# Altium footprint library Mach_congtac_thong_minh_Kien.PcbLib: 35 footprints (part 2 of 3)
Each footprint in its own frame and in the unit in brackets; x right, y up, seen from the top. Pads: shape width x height; smd on the part's side, far side on the other; paste and mask are expansions set on the pad; w line width, h text height; cw(c..) or ccw(c..) is an arc to the next point about the centre after c.
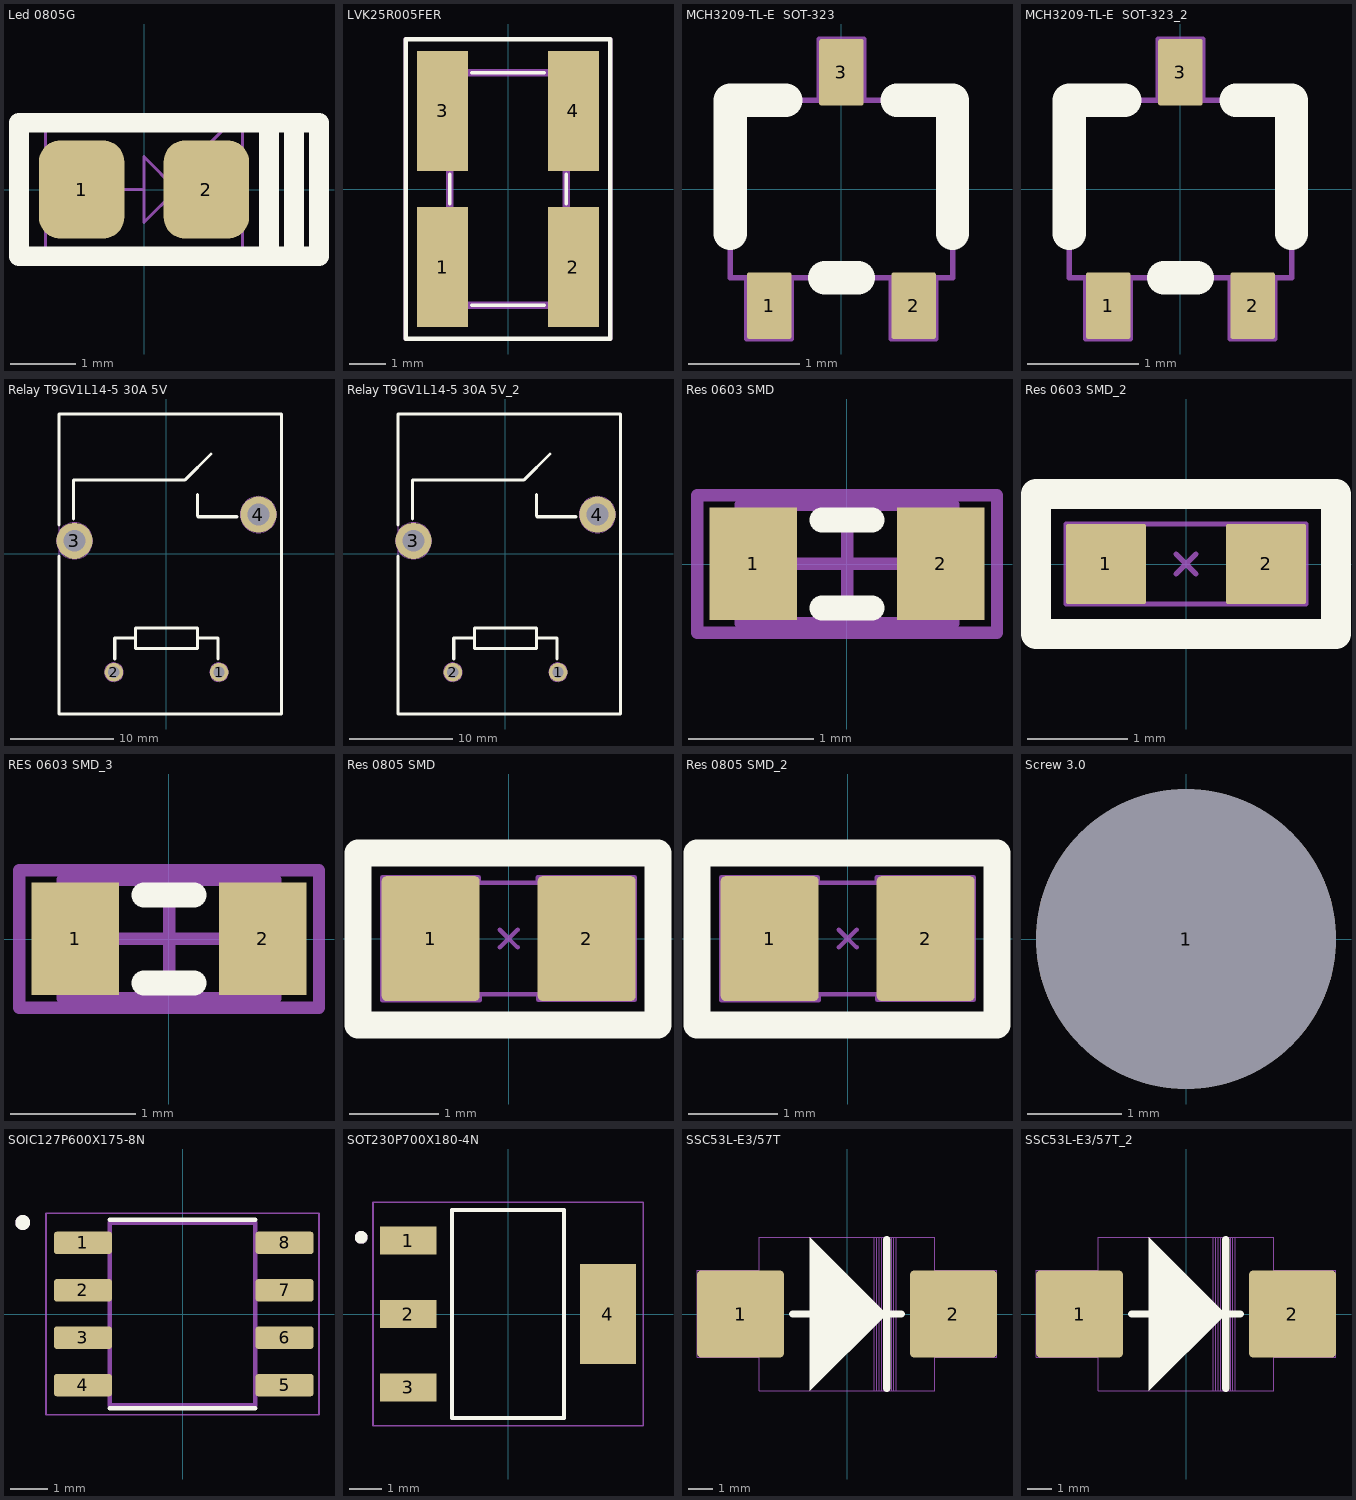
[diagram p1: the footprints below, top view; thin cyan lines are the x and y axes]

## Led 0805G [mm] "Chip LED; Green; Body 2.0 x 1.3 mm (LxW typ)"
height 1.1
pads (2):
  rrect50% 1.3x1.5 smd mask+0.05: 1(-0.95,0) 2(0.95,0)
Top Overlay:
  lines w0.3: 1.905,-1.016 1.905,1.016 ; 2.286,-1.016 2.286,1.016 ; -1.905,-1.016 -1.905,1.016 2.667,1.016 2.667,-1.016 -1.905,-1.016
Mechanical 2:
  lines w0.05: -1.5,-1 -1.5,1.032 ; -0.5,0 0,0 ; 0.5,-0.5 0.5,0.5 ; 0.6,0.5 0.8,0.7 0.8,0.5 1.2,0.9 ; 0.75,0.2 0.95,0.4 0.95,0.2 1.35,0.6 ; 1,0 0.5,0 ; 1.5,-1 1.5,1.032 ; 0.5,0 0,-0.5 0,0.5 0.5,0 ; -1.905,-1 -1.905,1.032 1.905,1.032 1.905,-1 -1.905,-1
3D body "User Library-User Library-led_0805 GRE.step": height 1.1, standoff 0, extent -1.035,-0.625 0.985,0.625

## LVK25R005FER [mm]
height 0.6
pads (4):
  rect 1.4x3.3 smd: 1(-1.8,-2.15) 2(1.8,-2.15) 3(-1.8,2.15) 4(1.8,2.15)
Top Overlay:
  lines w0.1: -1.6,-0.4 -1.6,0.4 ; -1,-3.2 1,-3.2 ; -1,3.2 1,3.2 ; 1.6,-0.4 1.6,0.4
  lines w0.127: -2.816,-4.119 -2.816,4.119 2.816,4.119 2.816,-4.119 -2.816,-4.119
Mechanical 13:
  lines w0.2: -1.6,-3.2 -1.6,3.2 1.6,3.2 1.6,-3.2 -1.6,-3.2
Mechanical 15:
  lines w0.1: -2.825,-4.125 -2.825,4.125 2.825,4.125 2.825,-4.125 -2.825,-4.125
3D body "User Library-LVK25-V2.step": height 0.67, standoff -0.05, extent -1.6,-3.206 1.5,3.205

## MCH3209-TL-E  SOT-323 [mm] "TRANS NPN 30V 3A MCPH3  SOT-323"
height 0.9
pads (3):
  rrect10% 0.4x0.6 smd mask+0.05: 1(-0.65,-1.05) 2(0.65,-1.05) 3(0,1.05)
Top Overlay:
  lines w0: 1,-0.4 1.1,-0.4
  lines w0.3: -1,-0.4 -1,0.8 -0.5,0.8 ; -0.15,-0.8 0.15,-0.8 ; 0.5,0.8 1,0.8 1,-0.4
Mechanical 2:
  lines w0.05: -0.851,-0.802 -0.851,-1.347 -0.45,-1.347 -0.45,-0.801 ; -0.201,0.801 -0.2,0.801 -0.2,1.347 0.201,1.347 0.201,0.802 0.204,0.802 ; 0.449,-0.802 0.449,-1.347 0.85,-1.347 0.85,-0.801 ; -1,-0.8 -1,0.8 1,0.8 1,-0.8 -1,-0.8
  text "E" at 0.55,-0.65 h0.75
  text "C" at -0.15,0.2 h0.75
  text "B" at -0.85,-0.65 h0.75
3D body "User Library-sc70-3.step": height 0.9, standoff -0.1, extent -1.05,-1.15 1.05,1.15

## MCH3209-TL-E  SOT-323_2 [mm]
pads (3):
  rrect10% 0.4x0.6 smd mask+0.05: 1(-0.65,-1.05) 2(0.65,-1.05) 3(0,1.05)
Top Overlay:
  lines w0: 1,-0.4 1.1,-0.4
  lines w0.3: -1,-0.4 -1,0.8 -0.5,0.8 ; -0.15,-0.8 0.15,-0.8 ; 0.5,0.8 1,0.8 1,-0.4
Mechanical 2:
  lines w0.05: -0.851,-0.802 -0.851,-1.347 -0.45,-1.347 -0.45,-0.801 ; -0.201,0.801 -0.2,0.801 -0.2,1.347 0.201,1.347 0.201,0.802 0.204,0.802 ; 0.449,-0.802 0.449,-1.347 0.85,-1.347 0.85,-0.801 ; -1,-0.8 -1,0.8 1,0.8 1,-0.8 -1,-0.8
  text "E" at 0.55,-0.65 h0.75
  text "C" at -0.15,0.2 h0.75
  text "B" at -0.85,-0.65 h0.75
3D body "User Library-sc70-3.step": height 0.9, standoff -0.1, extent -1.05,-1.15 1.05,1.15

## Relay T9GV1L14-5 30A 5V [mm] "Relay T9GV1L14-5 30A 5V CODE FORM C"
height 15.7
pads (4):
  round 1.8 hole 1.1 mask+0.05: 1(5.08,-11.43) 2(-5.08,-11.43)
  round 3.5 hole 2.1 mask+0.05: 3(-8.89,1.27) 4(8.89,3.81)
Top Overlay:
  lines w0.3: -10.37,-0.2 -10.37,-15.47 11.13,-15.47 11.13,13.53 -10.37,13.53 -10.37,2.8 ; -9,3.4 -9,7.16 1.8,7.16 4.3,9.66 ; -5,-10.14 -5,-8.14 -3,-8.14 ; 3,-8.14 5,-8.14 5,-10.14 ; 3,5.76 3,3.66 3.06,3.6 6.8,3.6 ; -3,-9.14 -3,-7.14 3,-7.14 3,-9.14 -3,-9.14
Mechanical 2:
  circle w0.05: c-5.08,-11.43 r0.9
  circle w0.05: c5.08,-11.43 r0.9
  circle w0.05: c8.89,3.81 r1.75
  circle w0.05: c-8.89,1.27 r1.75
  lines w0.05: -10.37,-15.47 11.13,-15.47 11.13,13.53 -10.37,13.53 -10.37,-15.47
  text "2" at -5.3,-12 h0.75
  text "1" at 4.8,-12 h0.75
  text "3" at -9.2,0.8 h0.75
  text "4" at 8.6,3.2 h0.75
3D body: height 15.7, standoff 0, extent -10.37,-15.47 11.13,13.53

## Relay T9GV1L14-5 30A 5V_2 [mm]
pads (4):
  round 1.8 hole 1.1 mask+0.05: 1(5.08,-11.43) 2(-5.08,-11.43)
  round 3.5 hole 2.1 mask+0.05: 3(-8.89,1.27) 4(8.89,3.81)
Top Overlay:
  lines w0.3: -10.37,-0.2 -10.37,-15.47 11.13,-15.47 11.13,13.53 -10.37,13.53 -10.37,2.8 ; -9,3.4 -9,7.16 1.8,7.16 4.3,9.66 ; -5,-10.14 -5,-8.14 -3,-8.14 ; 3,-8.14 5,-8.14 5,-10.14 ; 3,5.76 3,3.66 3.06,3.6 6.8,3.6 ; -3,-9.14 3,-9.14 3,-7.14 -3,-7.14 -3,-9.14
Mechanical 2:
  circle w0.05: c-8.89,1.27 r1.75
  circle w0.05: c8.89,3.81 r1.75
  circle w0.05: c5.08,-11.43 r0.9
  circle w0.05: c-5.08,-11.43 r0.9
  lines w0.05: -10.37,-15.47 -10.37,13.53 11.13,13.53 11.13,-15.47 -10.37,-15.47
  text "4" at 8.6,3.2 h0.75
  text "3" at -9.2,0.8 h0.75
  text "1" at 4.8,-12 h0.75
  text "2" at -5.3,-12 h0.75
3D body: height 15.7, standoff 0, extent -10.37,-15.47 11.13,13.53

## Res 0603 SMD [mm] "Chip Resistor, Body 1.6x0.8mm, IPC High Density"
height 0.6
pads (2):
  rect 0.7x0.9 smd mask+0.05: 1(-0.75,0) 2(0.75,0)
Top Overlay:
  lines w0.2: -0.2,-0.35 0.2,-0.35 ; -0.2,0.35 0.2,0.35
Mechanical 13:
  lines w0.1: -0.85,-0.475 -0.85,0.475 0.85,0.475 0.85,-0.475 -0.85,-0.475
Mechanical 15:
  lines w0.1: -0.475,0 0.475,0 ; 0,-0.475 0,0.475 ; -1.2,-0.55 -1.2,0.55 1.2,0.55 1.2,-0.55 -1.2,-0.55
3D body: height 0.6, standoff 0, extent -0.85,-0.475 0.85,0.475

## Res 0603 SMD_2 [mm]
pads (2):
  rrect5% 0.8x0.8 smd mask+0.05: 1(-0.8,0) 2(0.8,0)
Top Overlay:
  lines w0.3: -1.5,-0.7 1.5,-0.7 1.5,0.7 -1.5,0.7 -1.5,-0.7
Mechanical 2:
  lines w0.05: -0.8,-0.4 -1.2,-0.4 -1.2,0.4 -0.8,0.4 ; -0.8,-0.4 -0.8,-0.4 ; -0.8,-0.4 0.8,-0.4 ; -0.8,-0.4 -0.8,0.4 ; -0.8,0.4 0.8,0.4 ; 0.8,-0.4 1.2,-0.4 1.2,0.4 0.8,0.4 ; 0.8,-0.4 0.8,0.4
  text ".Designator" at 0,0 h0.75
Mechanical 15:
  lines w0.05: -0.1,-0.1 0.1,0.1 ; -0.1,0.1 0.1,-0.1 ; -0.8,-0.4 -0.8,0.4 0.8,0.4 0.8,-0.4 -0.8,-0.4
3D body "User Library-SMD RESISTOR-10603.STEP": height 0.48, standoff 0.02, extent -0.8,-0.4 0.8,0.4

## RES 0603 SMD_3 [mm]
pads (2):
  rect 0.7x0.9 smd mask+0.05: 1(-0.75,0) 2(0.75,0)
Top Overlay:
  lines w0.2: -0.2,-0.35 0.2,-0.35 ; -0.2,0.35 0.2,0.35
Mechanical 13:
  lines w0.1: -0.85,-0.475 0.85,-0.475 0.85,0.475 -0.85,0.475 -0.85,-0.475
Mechanical 15:
  lines w0.1: -0.475,0 0.475,0 ; 0,-0.475 0,0.475 ; -1.2,-0.55 1.2,-0.55 1.2,0.55 -1.2,0.55 -1.2,-0.55
3D body: height 0.6, standoff 0, extent -0.85,-0.475 0.85,0.475

## Res 0805 SMD [mm] "Reflow Soldering"
pads (2):
  rrect10% 1.1x1.4 smd mask+0.05: 1(-0.875,0) 2(0.875,0)
Top Overlay:
  lines w0.3: -1.69,-0.97 -1.69,0.96 1.675,0.96 1.675,-0.97 -1.69,-0.97
Mechanical 2:
  lines w0.05: -0.331,0.642 -0.334,0.642 -0.334,0.687 -1.416,0.687 -1.416,-0.69 -1.413,-0.69 -0.327,-0.69 ; -0.325,-0.69 -0.325,-0.632 ; 0.324,0.632 0.324,0.69 ; 0.327,0.69 1.413,0.69 ; 0.334,-0.642 0.334,-0.687 1.416,-0.687 1.416,0.69 ; -1,-0.625 1,-0.625 1,0.625 -1,0.625 -1,-0.625
  text ".Designator" at 0,0 h0.75
Mechanical 15:
  lines w0.05: -0.1,-0.1 0.1,0.1 ; -0.1,0.1 0.1,-0.1 ; -1,-0.625 1,-0.625 1,0.625 -1,0.625 -1,-0.625
3D body "User Library-SMD RESISTOR-10805.STEP": height 0.62, standoff 0.02, extent -1,-0.625 1,0.625

## Res 0805 SMD_2 [mm]
pads (2):
  rrect10% 1.1x1.4 smd mask+0.05: 1(-0.875,0) 2(0.875,0)
Top Overlay:
  lines w0.3: -1.69,-0.97 1.675,-0.97 1.675,0.96 -1.69,0.96 -1.69,-0.97
Mechanical 2:
  lines w0.05: -0.331,0.642 -0.334,0.642 -0.334,0.687 -1.416,0.687 -1.416,-0.69 -1.413,-0.69 -0.327,-0.69 ; -0.325,-0.69 -0.325,-0.632 ; 0.324,0.632 0.324,0.69 ; 0.327,0.69 1.413,0.69 ; 0.334,-0.642 0.334,-0.687 1.416,-0.687 1.416,0.69 ; -1,-0.625 -1,0.625 1,0.625 1,-0.625 -1,-0.625
  text ".Designator" at 0,0 h0.75
Mechanical 15:
  lines w0.05: -0.1,-0.1 0.1,0.1 ; -0.1,0.1 0.1,-0.1 ; -1,-0.625 -1,0.625 1,0.625 1,-0.625 -1,-0.625
3D body "User Library-SMD RESISTOR-10805.STEP": height 0.62, standoff 0.02, extent -1,-0.625 1,0.625

## Screw 3.0 [mm] "Hole 3.2mm outline 8mm"
height 10
pads (1):
  round 3.2 hole 3.2 mask+0.05: 1(0,0)

## SOIC127P600X175-8N [mm]
height 0.6
pads (8):
  rrect25% 1.55x0.6 smd: 1(-2.667,1.905) 2(-2.667,0.635) 3(-2.667,-0.635) 4(-2.667,-1.905) 5(2.733,-1.905) 6(2.733,-0.635) 7(2.733,0.635) 8(2.733,1.905)
Top Overlay:
  circle w0.2: c-4.28,2.45 r0.1
  lines w0.127: -1.95,-2.525 1.95,-2.525 ; -1.95,2.525 1.95,2.525
Mechanical 13:
  circle w0.2: c-4.28,2.45 r0.1
  lines w0.127: -1.95,-2.45 1.95,-2.45 1.95,2.45 -1.95,2.45 -1.95,-2.45
Mechanical 15:
  lines w0.05: -3.655,-2.7 3.655,-2.7 3.655,2.7 -3.655,2.7 -3.655,-2.7
3D body "step_temp.STEP": height 1.75, standoff 0, extent -3,-2.45 3,2.45

## SOT230P700X180-4N [mm]
pads (4):
  rect 1.76x0.88 smd: 1(-3.125,2.3) 2(-3.125,0) 3(-3.125,-2.3)
  rect 1.76x3.14 smd: 4(3.125,0)
Top Overlay:
  circle w0.2: c-4.6,2.4 r0.1
  lines w0.127: -1.75,-3.25 -1.75,3.25 1.75,3.25 1.75,-3.25 -1.75,-3.25
Mechanical 13:
  circle w0.2: c-4.6,2.4 r0.1
  lines w0.127: -1.75,-3.25 1.75,-3.25 1.75,3.25 -1.75,3.25 -1.75,-3.25
Mechanical 15:
  lines w0.05: -4.23,-3.5 4.23,-3.5 4.23,3.5 -4.23,3.5 -4.23,-3.5
3D body "CircuitWorks-SOT-223.step": height 1.65, standoff -0.03, extent -3.48,-3.25 3.48,3.25

## SSC53L-E3/57T [mm] "DIODE SCHOTTKY 30V 5A DO214AB"
height 2.62
pads (2):
  rrect10% 3.52x3.52 smd mask+0.05: 1(-4.305,0) 2(4.305,0)
Top Overlay:
  region: -1.5,3.1 -1.5,-3.1 1.6,0
  lines w0.3: -2.2,0 2.2,0 ; 1.6,-3 1.6,3
Mechanical 2:
  lines w0.05: -3.555,-1.74 -6.065,-1.74 -6.065,1.76 -3.555,1.76 ; 1.1,-3.1 1.1,3.1 ; 1.2,-3.1 1.2,3.1 ; 1.3,-3.1 1.3,3.1 ; 1.4,-3.1 1.4,3.1 ; 1.5,-3.1 1.5,3.1 ; 1.6,-3.1 1.6,3.1 ; 1.7,-3.1 1.7,3.1 ; 1.8,-3.1 1.8,3.1 ; 1.9,-3.1 1.9,3.1 ; 2,-3.1 2,3.1 ; 3.555,-1.75 6.065,-1.75 6.065,1.76 3.555,1.76 ; -3.555,-3.1 -3.555,3.1 3.555,3.1 3.555,-3.1 -3.555,-3.1
3D body "User Library-DIOM8261X24.step": height 2.4, standoff 0.03, extent -4.065,-3.05 4.065,3.05

## SSC53L-E3/57T_2 [mm]
pads (2):
  rrect10% 3.52x3.52 smd mask+0.05: 1(-4.305,0) 2(4.305,0)
Top Overlay:
  region: -1.5,3.1 -1.5,-3.1 1.6,0
  lines w0.3: -2.2,0 2.2,0 ; 1.6,-3 1.6,3
Mechanical 2:
  lines w0.05: -3.555,-1.74 -6.065,-1.74 -6.065,1.76 -3.555,1.76 ; 1.1,-3.1 1.1,3.1 ; 1.2,-3.1 1.2,3.1 ; 1.3,-3.1 1.3,3.1 ; 1.4,-3.1 1.4,3.1 ; 1.5,-3.1 1.5,3.1 ; 1.6,-3.1 1.6,3.1 ; 1.7,-3.1 1.7,3.1 ; 1.8,-3.1 1.8,3.1 ; 1.9,-3.1 1.9,3.1 ; 2,-3.1 2,3.1 ; 3.555,-1.75 6.065,-1.75 6.065,1.76 3.555,1.76 ; -3.555,-3.1 3.555,-3.1 3.555,3.1 -3.555,3.1 -3.555,-3.1
3D body "User Library-DIOM8261X24.step": height 2.4, standoff 0.03, extent -4.065,-3.05 4.065,3.05